# EAGLE library part ARDUINO-PRO-MINI-5V-328P-V2 (library cmmc_lbr1)
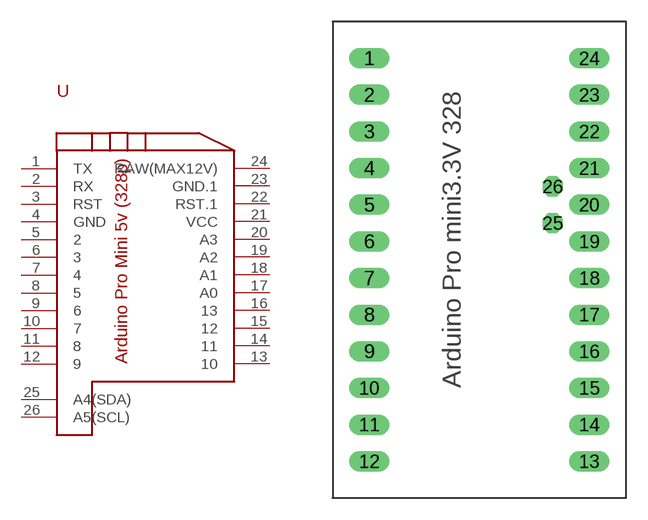
[diagram p5: symbol with the pads of ARDUINOPROMINI3.3; footprint ARDUINOPROMINI3.3]

Designator prefix -

## ARDUINO-PRO-MINI-5V-328P-V2  [ARDUINOPROMINI3.3]
1  TX
2  RX
3  RST
4  GND
5  2
6  3
7  4
8  5
9  6
10  7
11  8
12  9
13  10
14  11
15  12
16  13
17  A0
18  A1
19  A2
20  A3
21  VCC
22  RST.1
23  GND.1
24  RAW(MAX12V)
25  A4(SDA)
26  A5(SCL)

## Footprint ARDUINOPROMINI3.3 (pad centres in mm)
drill 0.9 long: 1 -8.89,10.16; 2 -8.89,7.62; 3 -8.89,5.08; 4 -8.89,2.54; 5 -8.89,0; 6 -8.89,-2.54; 7 -8.89,-5.08; 8 -8.89,-7.62; 9 -8.89,-10.16; 10 -8.89,-12.7; 11 -8.89,-15.24; 12 -8.89,-17.78; 13 6.35,-17.78; 14 6.35,-15.24; 15 6.35,-12.7; 16 6.35,-10.16; 17 6.35,-7.62; 18 6.35,-5.08; 19 6.35,-2.54; 20 6.35,0; 21 6.35,2.54; 22 6.35,5.08; 23 6.35,7.62; 24 6.35,10.16
drill 0.9 octagon: 25 3.81,-1.27; 26 3.81,1.27